# EAGLE library part XC3S_PQ208 (library RoboJackets-ICs)
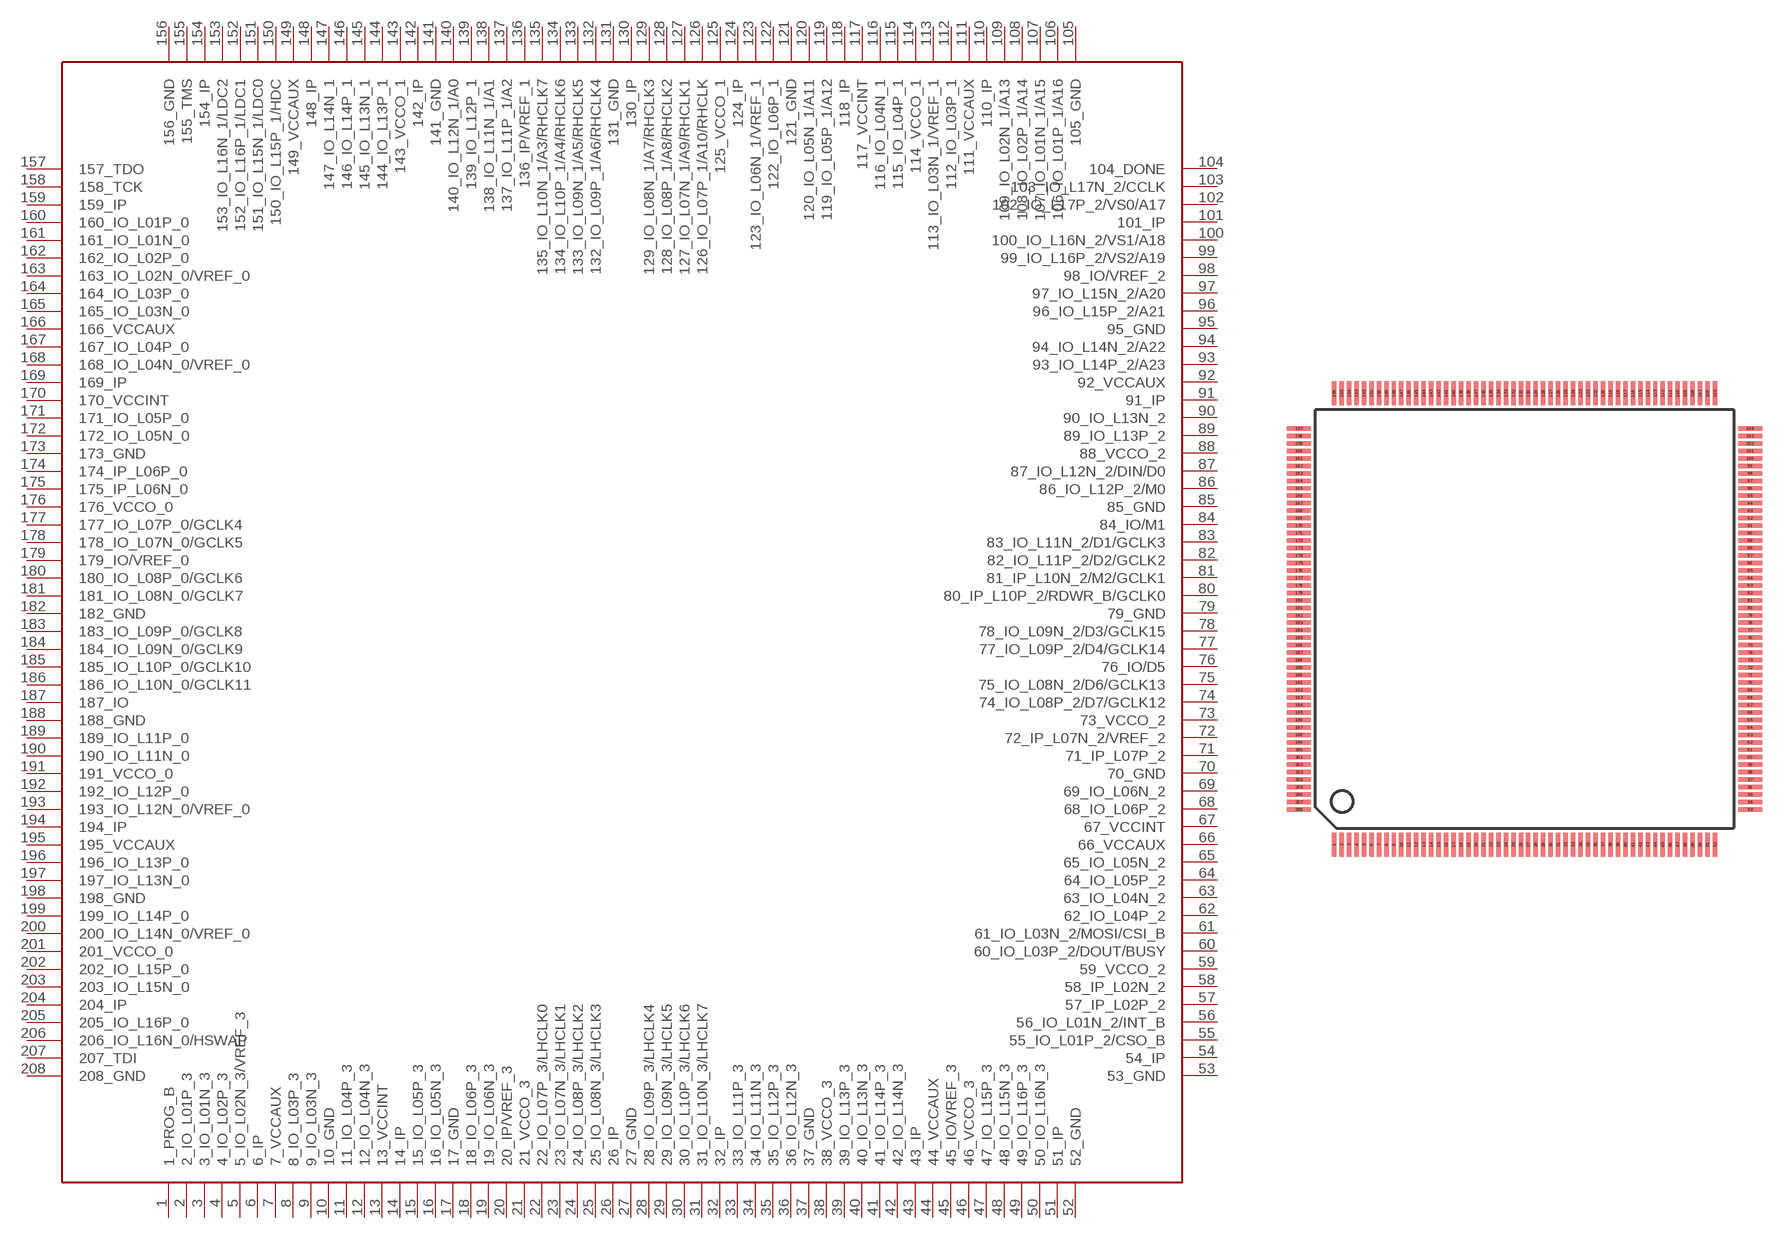
[diagram p3: symbol with the pads of TQFP208; footprint TQFP208]

Designator prefix U

## XC3S_PQ208  [TQFP208]
1  1_PROG_B
2  2_IO_L01P_3
3  3_IO_L01N_3
4  4_IO_L02P_3
5  5_IO_L02N_3/VREF_3
6  6_IP
7  7_VCCAUX
8  8_IO_L03P_3
9  9_IO_L03N_3
10  10_GND
11  11_IO_L04P_3
12  12_IO_L04N_3
13  13_VCCINT
14  14_IP
15  15_IO_L05P_3
16  16_IO_L05N_3
17  17_GND
18  18_IO_L06P_3
19  19_IO_L06N_3
20  20_IP/VREF_3
21  21_VCCO_3
22  22_IO_L07P_3/LHCLK0
23  23_IO_L07N_3/LHCLK1
24  24_IO_L08P_3/LHCLK2
25  25_IO_L08N_3/LHCLK3
26  26_IP
27  27_GND
28  28_IO_L09P_3/LHCLK4
29  29_IO_L09N_3/LHCLK5
30  30_IO_L10P_3/LHCLK6
31  31_IO_L10N_3/LHCLK7
32  32_IP
33  33_IO_L11P_3
34  34_IO_L11N_3
35  35_IO_L12P_3
36  36_IO_L12N_3
37  37_GND
38  38_VCCO_3
39  39_IO_L13P_3
40  40_IO_L13N_3
41  41_IO_L14P_3
42  42_IO_L14N_3
43  43_IP
44  44_VCCAUX
45  45_IO/VREF_3
46  46_VCCO_3
47  47_IO_L15P_3
48  48_IO_L15N_3
49  49_IO_L16P_3
50  50_IO_L16N_3
51  51_IP
52  52_GND
53  53_GND
54  54_IP
55  55_IO_L01P_2/CSO_B
56  56_IO_L01N_2/INT_B
57  57_IP_L02P_2
58  58_IP_L02N_2
59  59_VCCO_2
60  60_IO_L03P_2/DOUT/BUSY
61  61_IO_L03N_2/MOSI/CSI_B
62  62_IO_L04P_2
63  63_IO_L04N_2
64  64_IO_L05P_2
65  65_IO_L05N_2
66  66_VCCAUX
67  67_VCCINT
68  68_IO_L06P_2
69  69_IO_L06N_2
70  70_GND
71  71_IP_L07P_2
72  72_IP_L07N_2/VREF_2
73  73_VCCO_2
74  74_IO_L08P_2/D7/GCLK12
75  75_IO_L08N_2/D6/GCLK13
76  76_IO/D5
77  77_IO_L09P_2/D4/GCLK14
78  78_IO_L09N_2/D3/GCLK15
79  79_GND
80  80_IP_L10P_2/RDWR_B/GCLK0
81  81_IP_L10N_2/M2/GCLK1
82  82_IO_L11P_2/D2/GCLK2
83  83_IO_L11N_2/D1/GCLK3
84  84_IO/M1
85  85_GND
86  86_IO_L12P_2/M0
87  87_IO_L12N_2/DIN/D0
88  88_VCCO_2
89  89_IO_L13P_2
90  90_IO_L13N_2
91  91_IP
92  92_VCCAUX
93  93_IO_L14P_2/A23
94  94_IO_L14N_2/A22
95  95_GND
96  96_IO_L15P_2/A21
97  97_IO_L15N_2/A20
98  98_IO/VREF_2
99  99_IO_L16P_2/VS2/A19
100  100_IO_L16N_2/VS1/A18
101  101_IP
102  102_IO_L17P_2/VS0/A17
103  103_IO_L17N_2/CCLK
104  104_DONE
105  105_GND
106  106_IO_L01P_1/A16
107  107_IO_L01N_1/A15
108  108_IO_L02P_1/A14
109  109_IO_L02N_1/A13
110  110_IP
111  111_VCCAUX
112  112_IO_L03P_1
113  113_IO_L03N_1/VREF_1
114  114_VCCO_1
115  115_IO_L04P_1
116  116_IO_L04N_1
117  117_VCCINT
118  118_IP
119  119_IO_L05P_1/A12
120  120_IO_L05N_1/A11
121  121_GND
122  122_IO_L06P_1
123  123_IO_L06N_1/VREF_1
124  124_IP
125  125_VCCO_1
126  126_IO_L07P_1/A10/RHCLK
127  127_IO_L07N_1/A9/RHCLK1
128  128_IO_L08P_1/A8/RHCLK2
129  129_IO_L08N_1/A7/RHCLK3
130  130_IP
131  131_GND
132  132_IO_L09P_1/A6/RHCLK4
133  133_IO_L09N_1/A5/RHCLK5
134  134_IO_L10P_1/A4/RHCLK6
135  135_IO_L10N_1/A3/RHCLK7
136  136_IP/VREF_1
137  137_IO_L11P_1/A2
138  138_IO_L11N_1/A1
139  139_IO_L12P_1
140  140_IO_L12N_1/A0
141  141_GND
142  142_IP
143  143_VCCO_1
144  144_IO_L13P_1
145  145_IO_L13N_1
146  146_IO_L14P_1
147  147_IO_L14N_1
148  148_IP
149  149_VCCAUX
150  150_IO_L15P_1/HDC
151  151_IO_L15N_1/LDC0
152  152_IO_L16P_1/LDC1
153  153_IO_L16N_1/LDC2
154  154_IP
155  155_TMS
156  156_GND
157  157_TDO
158  158_TCK
159  159_IP
160  160_IO_L01P_0
161  161_IO_L01N_0
162  162_IO_L02P_0
163  163_IO_L02N_0/VREF_0
164  164_IO_L03P_0
165  165_IO_L03N_0
166  166_VCCAUX
167  167_IO_L04P_0
168  168_IO_L04N_0/VREF_0
169  169_IP
170  170_VCCINT
171  171_IO_L05P_0
172  172_IO_L05N_0
173  173_GND
174  174_IP_L06P_0
175  175_IP_L06N_0
176  176_VCCO_0
177  177_IO_L07P_0/GCLK4
178  178_IO_L07N_0/GCLK5
179  179_IO/VREF_0
180  180_IO_L08P_0/GCLK6
181  181_IO_L08N_0/GCLK7
182  182_GND
183  183_IO_L09P_0/GCLK8
184  184_IO_L09N_0/GCLK9
185  185_IO_L10P_0/GCLK10
186  186_IO_L10N_0/GCLK11
187  187_IO
188  188_GND
189  189_IO_L11P_0
190  190_IO_L11N_0
191  191_VCCO_0
192  192_IO_L12P_0
193  193_IO_L12N_0/VREF_0
194  194_IP
195  195_VCCAUX
196  196_IO_L13P_0
197  197_IO_L13N_0
198  198_GND
199  199_IO_L14P_0
200  200_IO_L14N_0/VREF_0
201  201_VCCO_0
202  202_IO_L15P_0
203  203_IO_L15N_0
204  204_IP
205  205_IO_L16P_0
206  206_IO_L16N_0/HSWAP
207  207_TDI
208  208_GND

## Footprint TQFP208 (pad centres in mm)
smd 0.3 x 1.6: 1 -12.75,-15.1; 2 -12.25,-15.1; 3 -11.75,-15.1; 4 -11.25,-15.1; 5 -10.75,-15.1; 6 -10.25,-15.1; 7 -9.75,-15.1; 8 -9.25,-15.1; 9 -8.75,-15.1; 10 -8.25,-15.1; 11 -7.75,-15.1; 12 -7.25,-15.1; 13 -6.75,-15.1; 14 -6.25,-15.1; 15 -5.75,-15.1; 16 -5.25,-15.1; 17 -4.75,-15.1; 18 -4.25,-15.1; 19 -3.75,-15.1; 20 -3.25,-15.1; 21 -2.75,-15.1; 22 -2.25,-15.1; 23 -1.75,-15.1; 24 -1.25,-15.1; 25 -0.75,-15.1; 26 -0.25,-15.1; 27 0.25,-15.1; 28 0.75,-15.1; 29 1.25,-15.1; 30 1.75,-15.1; 31 2.25,-15.1; 32 2.75,-15.1; 33 3.25,-15.1; 34 3.75,-15.1; 35 4.25,-15.1; 36 4.75,-15.1; 37 5.25,-15.1; 38 5.75,-15.1; 39 6.25,-15.1; 40 6.75,-15.1; 41 7.25,-15.1; 42 7.75,-15.1; 43 8.25,-15.1; 44 8.75,-15.1; 45 9.25,-15.1; 46 9.75,-15.1; 47 10.25,-15.1; 48 10.75,-15.1; 49 11.25,-15.1; 50 11.75,-15.1; 51 12.25,-15.1; 52 12.75,-15.1; 105 12.75,15.1; 106 12.25,15.1; 107 11.75,15.1; 108 11.25,15.1; 109 10.75,15.1; 110 10.25,15.1; 111 9.75,15.1; 112 9.25,15.1; 113 8.75,15.1; 114 8.25,15.1; 115 7.75,15.1; 116 7.25,15.1; 117 6.75,15.1; 118 6.25,15.1; 119 5.75,15.1; 120 5.25,15.1; 121 4.75,15.1; 122 4.25,15.1; 123 3.75,15.1; 124 3.25,15.1; 125 2.75,15.1; 126 2.25,15.1; 127 1.75,15.1; 128 1.25,15.1; 129 0.75,15.1; 130 0.25,15.1; 131 -0.25,15.1; 132 -0.75,15.1; 133 -1.25,15.1; 134 -1.75,15.1; 135 -2.25,15.1; 136 -2.75,15.1; 137 -3.25,15.1; 138 -3.75,15.1; 139 -4.25,15.1; 140 -4.75,15.1; 141 -5.25,15.1; 142 -5.75,15.1; 143 -6.25,15.1; 144 -6.75,15.1; 145 -7.25,15.1; 146 -7.75,15.1; 147 -8.25,15.1; 148 -8.75,15.1; 149 -9.25,15.1; 150 -9.75,15.1; 151 -10.25,15.1; 152 -10.75,15.1; 153 -11.25,15.1; 154 -11.75,15.1; 155 -12.25,15.1; 156 -12.75,15.1
smd 1.6 x 0.3: 53 15.1,-12.75; 54 15.1,-12.25; 55 15.1,-11.75; 56 15.1,-11.25; 57 15.1,-10.75; 58 15.1,-10.25; 59 15.1,-9.75; 60 15.1,-9.25; 61 15.1,-8.75; 62 15.1,-8.25; 63 15.1,-7.75; 64 15.1,-7.25; 65 15.1,-6.75; 66 15.1,-6.25; 67 15.1,-5.75; 68 15.1,-5.25; 69 15.1,-4.75; 70 15.1,-4.25; 71 15.1,-3.75; 72 15.1,-3.25; 73 15.1,-2.75; 74 15.1,-2.25; 75 15.1,-1.75; 76 15.1,-1.25; 77 15.1,-0.75; 78 15.1,-0.25; 79 15.1,0.25; 80 15.1,0.75; 81 15.1,1.25; 82 15.1,1.75; 83 15.1,2.25; 84 15.1,2.75; 85 15.1,3.25; 86 15.1,3.75; 87 15.1,4.25; 88 15.1,4.75; 89 15.1,5.25; 90 15.1,5.75; 91 15.1,6.25; 92 15.1,6.75; 93 15.1,7.25; 94 15.1,7.75; 95 15.1,8.25; 96 15.1,8.75; 97 15.1,9.25; 98 15.1,9.75; 99 15.1,10.25; 100 15.1,10.75; 101 15.1,11.25; 102 15.1,11.75; 103 15.1,12.25; 104 15.1,12.75; 157 -15.1,12.75; 158 -15.1,12.25; 159 -15.1,11.75; 160 -15.1,11.25; 161 -15.1,10.75; 162 -15.1,10.25; 163 -15.1,9.75; 164 -15.1,9.25; 165 -15.1,8.75; 166 -15.1,8.25; 167 -15.1,7.75; 168 -15.1,7.25; 169 -15.1,6.75; 170 -15.1,6.25; 171 -15.1,5.75; 172 -15.1,5.25; 173 -15.1,4.75; 174 -15.1,4.25; 175 -15.1,3.75; 176 -15.1,3.25; 177 -15.1,2.75; 178 -15.1,2.25; 179 -15.1,1.75; 180 -15.1,1.25; 181 -15.1,0.75; 182 -15.1,0.25; 183 -15.1,-0.25; 184 -15.1,-0.75; 185 -15.1,-1.25; 186 -15.1,-1.75; 187 -15.1,-2.25; 188 -15.1,-2.75; 189 -15.1,-3.25; 190 -15.1,-3.75; 191 -15.1,-4.25; 192 -15.1,-4.75; 193 -15.1,-5.25; 194 -15.1,-5.75; 195 -15.1,-6.25; 196 -15.1,-6.75; 197 -15.1,-7.25; 198 -15.1,-7.75; 199 -15.1,-8.25; 200 -15.1,-8.75; 201 -15.1,-9.25; 202 -15.1,-9.75; 203 -15.1,-10.25; 204 -15.1,-10.75; 205 -15.1,-11.25; 206 -15.1,-11.75; 207 -15.1,-12.25; 208 -15.1,-12.75